# Altium schematic symbol library BSS127SSN-7.Schlib: 1 symbol
Pins are listed as number, name and electrical type; pins without a type are passive.

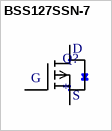
[diagram p0: symbol BSS127SSN-7]

## BSS127SSN-7
designator Q?
Small Signal N-Ch, 600Vds
pins: D, G, S